# Altium schematic symbol library 2020-09-22_22-27-35.SchLib: 2 symbols
Pins are listed as number, name and electrical type; pins without a type are passive.

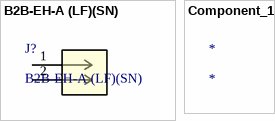
[diagram p0: symbols B2B-EH-A (LF)(SN) to Component_1]

## B2B-EH-A (LF)(SN)
designator J?
No Description Available; Vendor: JST; Built_By: EMA_TJ; SourceLibrary: JST_2019-01-31; Copyright: Copyright (C) 2018 Accelerated Designs. All rights reserved; Manufacturer_Part_Number: B2B-EH-A (LF)(SN); RefDes: RefDes; Type: DEV
footprint CONN_B2B-EH-A (LF)(SN)_JST
pins: 1, 2

## Component_1
designator *